# Altium schematic symbol library LaunchyRIOComponents.SchLib: 18 symbols
Pins are listed as number, name and electrical type; pins without a type are passive.

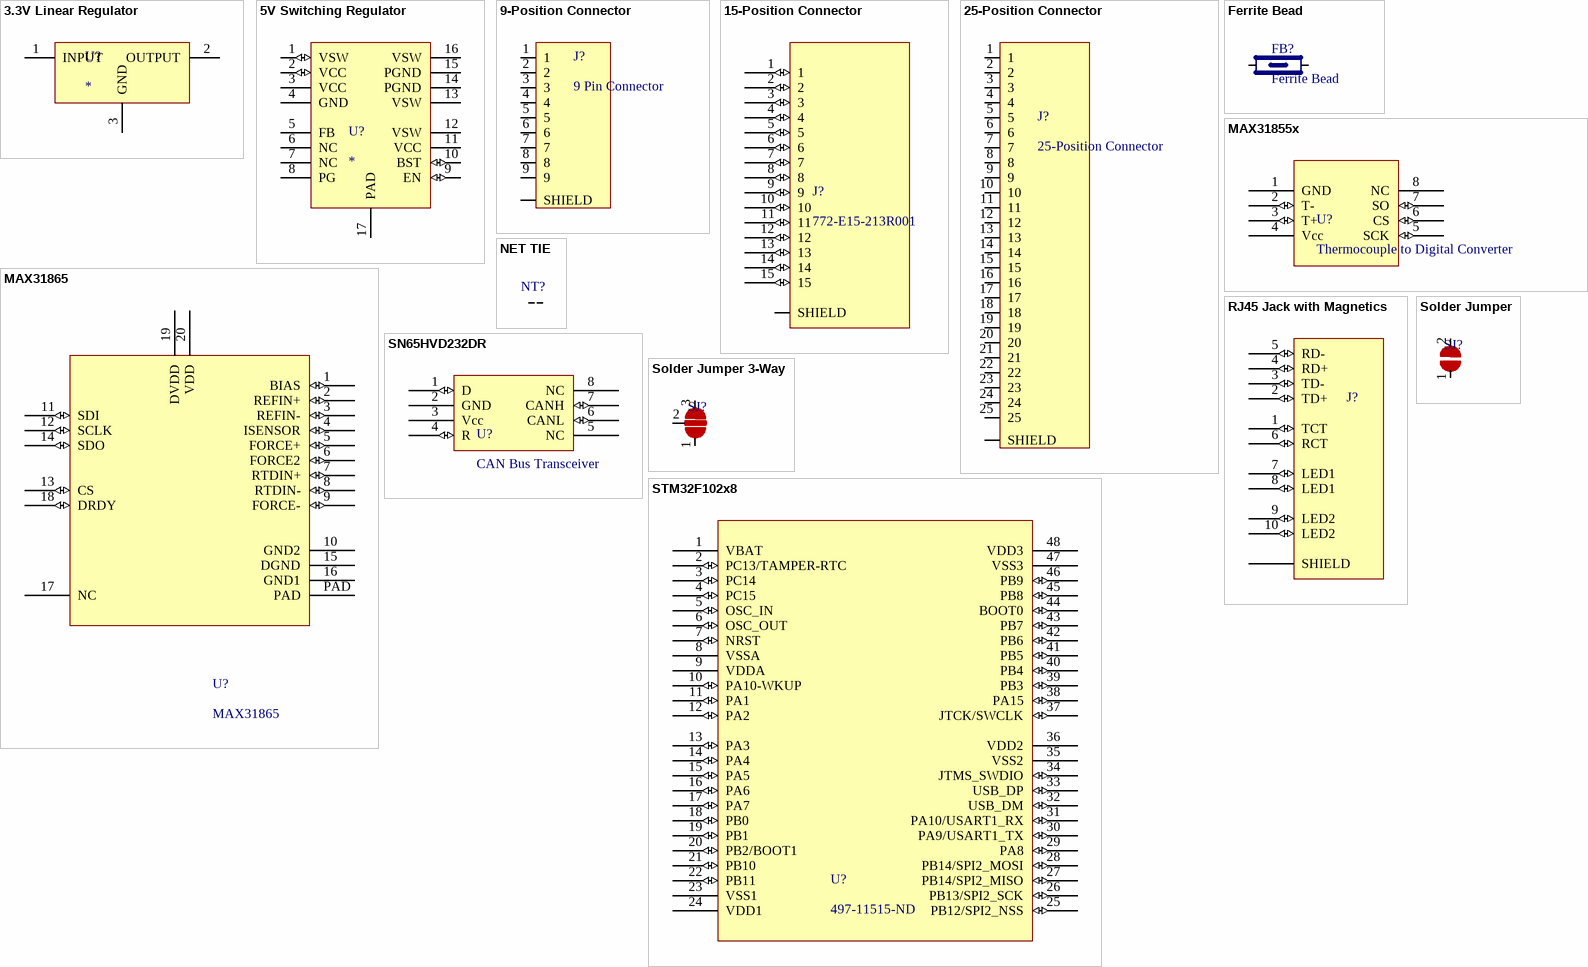
[diagram p0: symbols 3.3V Linear Regulator to STM32F102x8]

## 3.3V Linear Regulator
designator U?
DigiKey PN: 497-1496-1-ND
footprint DPAK
pins: 1 INPUT (power), 2 OUTPUT (power), 3 GND (power)

## 5V Switching Regulator
designator U?
DigiKey PN: TS30011-M050QFNRCT-ND
footprint VQFN16 (QFN, 16-Leads, Body 3.00x3.00mm, Pitch 0.50mm, Thermal Pad 1.68x1.68mm, IPC Medium Density)
pins: 1 VSW (io), 2 VCC (io), 3 VCC (power), 4 GND (power), 5 FB (power), 6 NC (power), 7 NC (power), 8 PG (power), 9 EN (io), 10 BST (io), 11 VCC (power), 12 VSW (power), 13 VSW (power), 14 PGND (power), 15 PGND (power), 16 VSW (power), 17 PAD (power)

## 9-Position Connector
designator J?, comment 9 Pin Connector
9-Position Connector; Unknown parameter: 772-E09-213R011
footprint 9-Pos D-Sub (9-pos connector)
pins: 1 (io), 2 (io), 3 (io), 4 (io), 5 (io), 6 (io), 7 (io), 8 (io), 9 (io), SHIELD

## 15-Position Connector
designator J?, comment 772-E15-213R001
15-Position Connector; Number of Positions: 15; Connector Type: Receptacle, Female Sockets; Current Rating: 5A; Ingress Protection: IP67 - Dust Tight, Waterproof; Material Flammability Rating: UL94 V-0; Mounting Type: Panel Mount, Through Hole; Operating Temperature: -50°C ~ 100°C; Contact Type: Signal; Shell Material, Finish: Steel, Nickel Plated; Contact Finish: Gold; Manufacturer Part Number: 772-E15-213R001; DigiKey Part Number: NOR1010-ND
footprint 15-Pos D-Sub (15-pos connector)
pins: 1 (io), 2 (io), 3 (io), 4 (io), 5 (io), 6 (io), 7 (io), 8 (io), 9 (io), 10 (io), 11 (io), 12 (io), 13 (io), 14 (io), 15 (io), SHIELD

## 25-Position Connector
designator J?
Manufacturer Part Number: 772-E25-213R051; DigiKey Part Number: NOR1066-ND
footprint 25-POS D-SUB
pins: 1 (io), 2 (io), 3 (io), 4 (io), 5 (io), 6 (io), 7 (io), 8 (io), 9 (io), 10 (io), 11 (io), 12 (io), 13 (io), 14 (io), 15 (io), 16 (io), 17 (io), 18 (io), 19 (io), 20 (io), 21 (io), 22 (io), 23 (io), 24 (io), 25 (io), SHIELD

## Ferrite Bead
designator FB?
footprint 0402
pins: 1, 2

## MAX31855x
designator U?, comment Thermocouple to Digital Converter
Manufacturer PN: MAX31855EASA+; Thermocouple Type: E; DigiKey PN: MAX31855EASA+-ND
footprint 8-SOIC MAXIM (Thermocouple Amplifier, Maxim Land Pattern 90-0096)
pins: 1 GND (power), 2 T- (io), 3 T+ (io), 4 Vcc (power), 5 SCK (io), 6 CS (io), 7 SO (io), 8 NC

## MAX31865
designator U?
RTD Digital Converter; Manufacturer Part Number: MAX31865ATP+; DigiKey Part Number: MAX31865ATP+-ND
footprint TQFN20-EP-Maxim
pins: 1 BIAS (io), 2 REFIN+ (io), 3 REFIN- (io), 4 ISENSOR (io), 5 FORCE+ (io), 6 FORCE2 (io), 7 RTDIN+ (io), 8 RTDIN- (io), 9 FORCE- (io), 10 GND2 (power), 11 SDI (io), 12 SCLK (io), 13 CS (io), 14 SDO (io), 15 DGND (power), 16 GND1 (power), 17 NC, 18 DRDY (io), 19 DVDD (power), 20 VDD (power), PAD (power) "The pad on the bottom of the TQFN package"

## NET TIE
designator NT?, comment Net Tie  (value not drawn)  (net tie, no BOM)
Physical and intentional short between 2 nets
footprint NET_TIE_10MIL
pins: 1, 2

## RJ45 Jack with Magnetics
designator J?, comment RJ45  (value not drawn)
Ethernet Jack with Magnetics; Manufacturer Part Number: 08B0-1X1T-03-F; Manufacturer: Bel Fuse Inc.; DigiKey Part Number: 507-1444-ND; Applications: 10/100 Base-T
footprint RJ45 (RJ45 Ethernet Connector)
pins: 1 TCT (io), 2 TD+ (io), 3 TD- (io), 4 RD+ (io), 5 RD- (io), 6 RCT (io), 7 LED1 (io), 8 LED1 (io), 9 LED2 (io), 10 LED2 (io), SHIELD

## SN65HVD232DR
designator U?, comment CAN Bus Transceiver
Manufacturer: Texas Instruments; Manufacturer Part Number: SN65HVD232DR; Max Data Rate: 1Mbps; Supply Voltage: 3V ~ 3.6V; DigiKey Part Number: 296-26344-1-ND; Operating Temperature: -40 ~ 85 C
footprint 8SOIC-CAN-TRANSCEIVER (SOIC, 8-Leads, Body 4.90x3.90mm, Pitch 1.27mm, IPC Medium Density)
pins: 1 D (io), 2 GND (power), 3 Vcc (power), 4 R (io), 5 NC, 6 CANL (io), 7 CANH (io), 8 NC

## Solder Jumper
designator SJ?  (value not drawn)
footprint SB-2pos
pins: 1, 2

## Solder Jumper 3-Way
designator SJ?  (value not drawn)
footprint SB-3pos
pins: 1 3, 2, 3

## STM32F102x8
designator U?, comment 497-11515-ND
STM32F102x8; Manufacturer Part Number: STM32F102C8T6; DigiKey Part Number: 497-8307-ND
footprint LQFP48 (TSQFP, 48-Leads, Body 6.90x6.90mm, Pitch 0.50mm, IPC Medium Density)
pins: 1 VBAT (power), 2 PC13/TAMPER-RTC (io), 3 PC14 (io), 4 PC15 (io), 5 OSC_IN (io), 6 OSC_OUT (io), 7 NRST (io), 8 VSSA (power), 9 VDDA (power), 10 PA10-WKUP (io), 11 PA1 (io), 12 PA2 (io), 13 PA3 (io), 14 PA4 (io), 15 PA5 (io), 16 PA6 (io), 17 PA7 (io), 18 PB0 (io), 19 PB1 (io), 20 PB2/BOOT1 (io), 21 PB10 (io), 22 PB11 (io), 23 VSS1 (power), 24 VDD1 (power), 25 PB12/SPI2_NSS (io), 26 PB13/SPI2_SCK (io), 27 PB14/SPI2_MISO (io), 28 PB14/SPI2_MOSI (io), 29 PA8 (io), 30 PA9/USART1_TX (io), 31 PA10/USART1_RX (io), 32 USB_DM (io), 33 USB_DP (io), 34 JTMS_SWDIO (io), 35 VSS2 (power), 36 VDD2 (power), 37 JTCK/SWCLK (io), 38 PA15 (io), 39 PB3 (io), 40 PB4 (io), 41 PB5 (io), 42 PB6 (io), 43 PB7 (io), 44 BOOT0 (io), 45 PB8 (io), 46 PB9 (io), 47 VSS3 (power), 48 VDD3 (power)

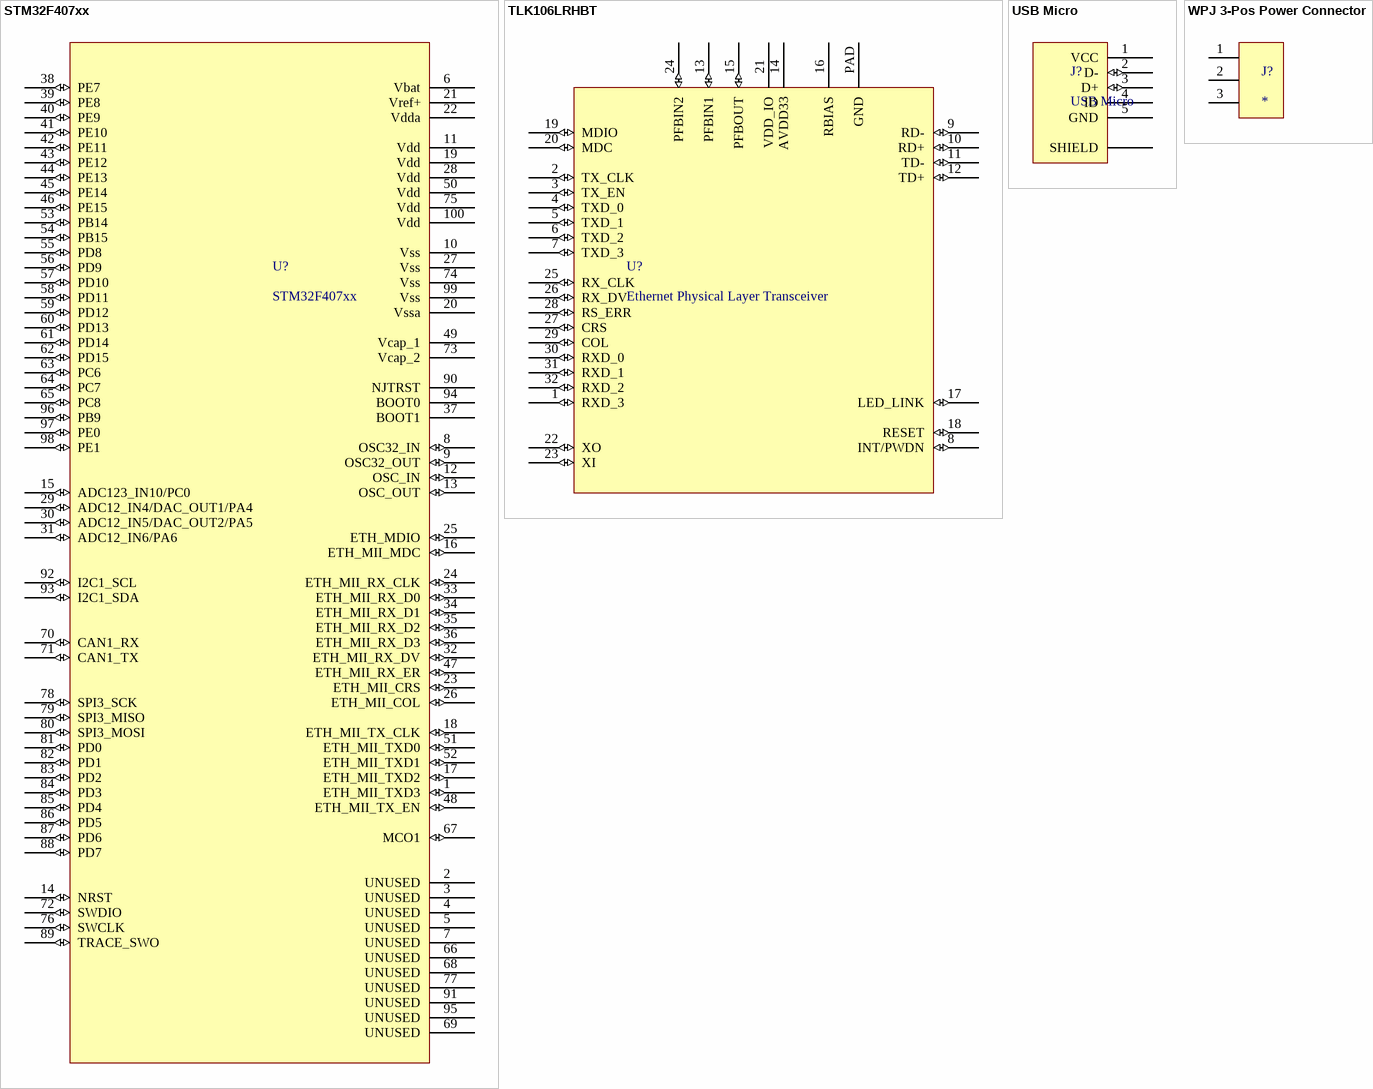
[diagram p1: symbols STM32F407xx to WPJ 3-Pos Power Connector]

## STM32F407xx
designator U?
footprint LQFP100
pins: 1 ETH_MII_TXD3 (io), 2 UNUSED, 3 UNUSED, 4 UNUSED, 5 UNUSED, 6 Vbat (power), 7 UNUSED, 8 OSC32_IN (io), 9 OSC32_OUT (io), 10 Vss (power), 11 Vdd (power), 12 OSC_IN (io), 13 OSC_OUT (io), 14 NRST (io), 15 ADC123_IN10/PC0 (io), 16 ETH_MII_MDC (io), 17 ETH_MII_TXD2 (io), 18 ETH_MII_TX_CLK (io), 19 Vdd (power), 20 Vssa (power), 21 Vref+ (power), 22 Vdda (power), 23 ETH_MII_CRS (io), 24 ETH_MII_RX_CLK (io), 25 ETH_MDIO (io), 26 ETH_MII_COL (io), 27 Vss (power), 28 Vdd (power), 29 ADC12_IN4/DAC_OUT1/PA4 (io), 30 ADC12_IN5/DAC_OUT2/PA5 (io), 31 ADC12_IN6/PA6 (io), 32 ETH_MII_RX_DV (io), 33 ETH_MII_RX_D0 (io), 34 ETH_MII_RX_D1 (io), 35 ETH_MII_RX_D2 (io), 36 ETH_MII_RX_D3 (io), 37 BOOT1, 38 PE7 (io), 39 PE8 (io), 40 PE9 (io), 41 PE10 (io), 42 PE11 (io), 43 PE12 (io), 44 PE13 (io), 45 PE14 (io), 46 PE15 (io), 47 ETH_MII_RX_ER (io), 48 ETH_MII_TX_EN (io), 49 Vcap_1, 50 Vdd, 51 ETH_MII_TXD0 (io), 52 ETH_MII_TXD1 (io), 53 PB14 (io), 54 PB15 (io), 55 PD8 (io), 56 PD9 (io), 57 PD10 (io), 58 PD11 (io), 59 PD12 (io), 60 PD13 (io), 61 PD14 (io), 62 PD15 (io), 63 PC6 (io), 64 PC7 (io), 65 PC8 (io), 66 UNUSED, 67 MCO1 (io), 68 UNUSED, 69 UNUSED, 70 CAN1_RX (io), 71 CAN1_TX (io), 72 SWDIO (io), 73 Vcap_2, 74 Vss (power), 75 Vdd, 76 SWCLK (io), 77 UNUSED, 78 SPI3_SCK (io), 79 SPI3_MISO (io), 80 SPI3_MOSI (io), 81 PD0 (io), 82 PD1 (io), 83 PD2 (io), 84 PD3 (io), 85 PD4 (io), 86 PD5 (io), 87 PD6 (io), 88 PD7 (io), 89 TRACE_SWO (io), 90 NJTRST, 91 UNUSED, 92 I2C1_SCL (io), 93 I2C1_SDA (io), 94 BOOT0, 95 UNUSED, 96 PB9 (io), 97 PE0 (io), 98 PE1 (io), 99 Vss, 100 Vdd

## TLK106LRHBT
designator U?, comment Ethernet Physical Layer Transceiver  Manufacturer Part Number: TLK106LRHBT
Supply Voltage: 3 V ~ 3.6 V; Operating Temperature: -40°C ~ 105°C; Base Part Number: TLK106; DigiKey Part Number: 296-39585-2-ND
footprint VQFN32-PHY-TRANSCEIVER (QFN, 32-Leads, Body 5.00x5.00mm, Pitch 0.50mm, Thermal Pad 2.75x2.75mm, IPC Medium Density)
pins: 1 RXD_3 (io), 2 TX_CLK (io), 3 TX_EN (io), 4 TXD_0 (io), 5 TXD_1 (io), 6 TXD_2 (io), 7 TXD_3 (io), 8 INT/PWDN (io), 9 RD- (io), 10 RD+ (io), 11 TD- (io), 12 TD+ (io), 13 PFBIN1 (io), 14 AVDD33 (power), 15 PFBOUT (io), 16 RBIAS (power), 17 LED_LINK (io), 18 RESET (io), 19 MDIO (io), 20 MDC (io), 21 VDD_IO (power), 22 XO (io), 23 XI (io), 24 PFBIN2 (io), 25 RX_CLK (io), 26 RX_DV (io), 27 CRS (io), 28 RS_ERR (io), 29 COL (io), 30 RXD_0 (io), 31 RXD_1 (io), 32 RXD_2 (io), PAD GND

## USB Micro
designator J?
Manufacturer Part Number: 10118192-0001LF; DigiKey Part Number: 609-4613-1-ND
footprint USB Micro
pins: 1 VCC (power), 2 D- (io), 3 D+ (io), 4 ID, 5 GND (power), SHIELD (power)

## WPJ 3-Pos Power Connector
designator J?
Manufacturer PN: B03B-WPJSS-1(LF)(SN); DigiKey PN: 455-2448-ND
footprint WPJ-3Pos (3 Position Power Connector. DigiKey PN: 455-2448-ND)
pins: 1 (power), 2 (power), 3 (power)